# EAGLE library part LTC3541 (library JLB6_power)
LTC3541 SW reg 500mA + VLDO 300mA
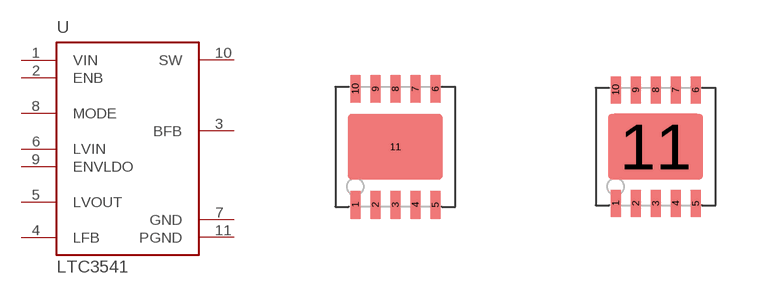
[diagram p11: symbol with the pads of DFN10_POLY; footprints DFN10_POLY, DFN10]

Designator prefix U

## LTC3541POLY  [DFN10_POLY]
1  VIN  pwr
2  ENB  in
3  BFB  in
4  LFB  in
5  LVOUT  pwr
6  LVIN  pwr
7  GND  pwr
8  MODE  in
9  ENVLDO  in
10  SW  pwr
11  PGND  pwr

## LTC3541PAD  [DFN10]
Pads as for DFN10_POLY

## Footprint DFN10_POLY (pad centres in mm)
smd 0.25 x 0.7: 1 -1,-1.45; 2 -0.5,-1.45; 3 0,-1.45; 4 0.5,-1.45; 5 1,-1.45; 6 1,1.45; 7 0.5,1.45; 8 0,1.45; 9 -0.5,1.45; 10 -1,1.45
smd 0.7 x 0.25: 11 0,0

## Footprint DFN10 (pad centres in mm)
smd 0.25 x 0.675: 1 -1,-1.42; 2 -0.5,-1.42; 3 0,-1.42; 4 0.5,-1.42; 5 1,-1.42; 6 1,1.42; 7 0.5,1.42; 8 0,1.42; 9 -0.5,1.42; 10 -1,1.42
smd 2.38 x 1.65: 11 0,0